# Altium integrated library Incudtor100uH_RLB9012-101KL.IntLib: 1 symbol
Pins are listed as number, name and electrical type; pins without a type are passive.

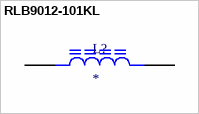
[diagram p0: symbol RLB9012-101KL]

## RLB9012-101KL
designator L?
MP: RLB9012-101KL; Value: *; Package: None; Price: None; Availability: Unavailable
footprint IND_RLB9012-101KL
pins: 1, 2